# EAGLE library part KRAMER_SYSBUS (library ferry_Kramer_KC)
Kramer Kleincomputer System-Bus Buchse _MA für Module _FE für Busplatine
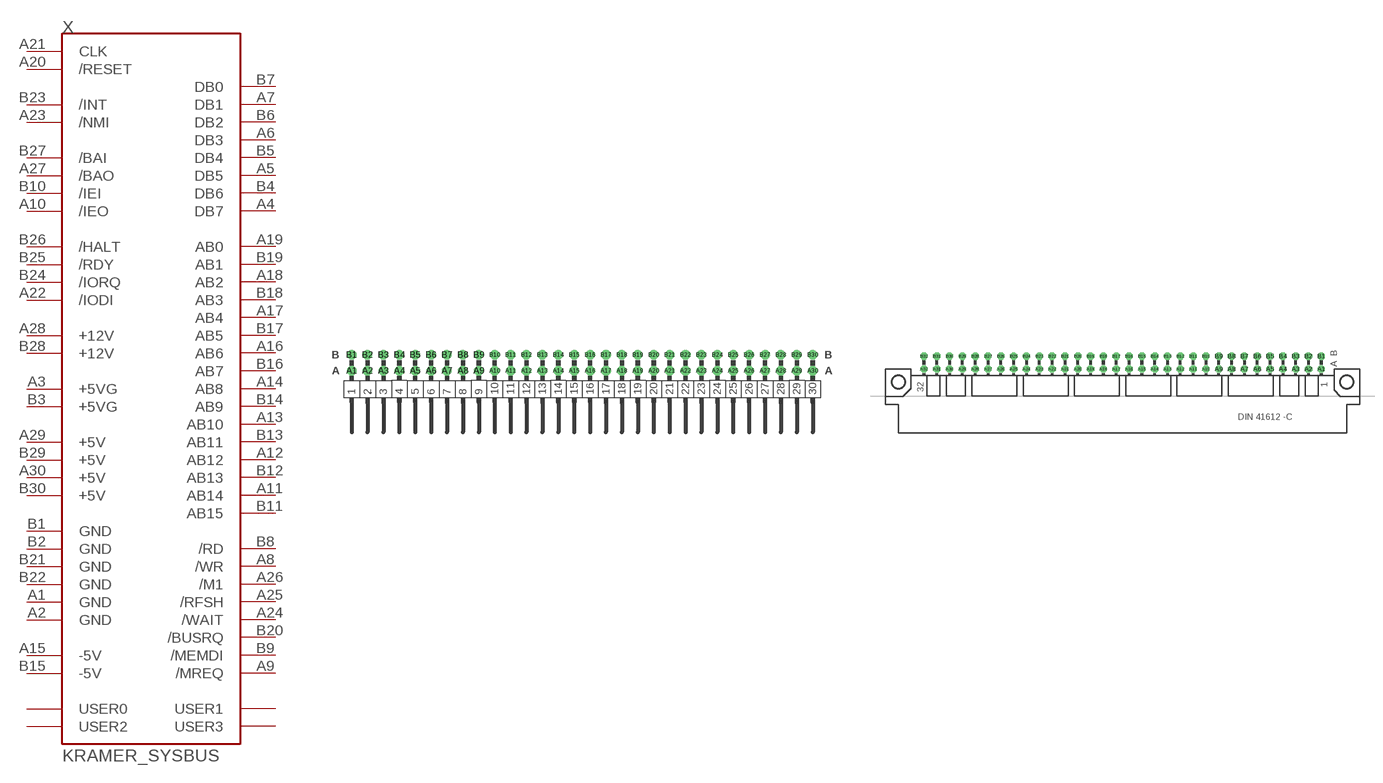
[diagram p0: symbol with the pads of MA30-2W; footprints MA30-2W, MAB64]

Designator prefix X

## KRAMER_SYSBUS_MA  [MA30-2W]
A1  GND  sup
A2  GND  sup
A3  +5VG  sup
A4  DB7
A5  DB5
A6  DB3
A7  DB1
A8  /WR
A9  /MREQ
A10  /IEO
A11  AB14  out
A12  AB12  out
A13  AB10  out
A14  AB8  out
A15  -5V  sup
A16  AB6  out
A17  AB4  out
A18  AB2  out
A19  AB0  out
A20  /RESET  in
A21  CLK
A22  /IODI  in
A23  /NMI  in
A24  /WAIT
A25  /RFSH
A26  /M1
A27  /BAO
A28  +12V  sup
A29  +5V  sup
A30  +5V  sup
B1  GND  sup
B2  GND  sup
B3  +5VG  sup
B4  DB6
B5  DB4
B6  DB2
B7  DB0
B8  /RD
B9  /MEMDI  in
B10  /IEI  in
B11  AB15  out
B12  AB13  out
B13  AB11  out
B14  AB9  out
B15  -5V  sup
B16  AB7  out
B17  AB5  out
B18  AB3  out
B19  AB1  out
B20  /BUSRQ  in
B21  GND  sup
B22  GND  sup
B23  /INT  in
B24  /IORQ  in
B25  /RDY
B26  /HALT
B27  /BAI  in
B28  +12V  sup
B29  +5V  sup
B30  +5V  sup

## KRAMER_SYSBUS_VG64B_MA  [MAB64]
A1  USER0
A2  +5V  sup
A3  +5V  sup
A4  +12V  sup
A5  /BAO
A6  /M1
A7  /RFSH
A8  /WAIT
A9  /NMI  in
A10  /IODI  in
A11  CLK
A12  /RESET  in
A13  AB0  out
A14  AB2  out
A15  AB4  out
A16  AB6  out
A17  -5V  sup
A18  AB8  out
A19  AB10  out
A20  AB12  out
A21  AB14  out
A22  /IEO
A23  /MREQ
A24  /WR
A25  DB1
A26  DB3
A27  DB5
A28  DB7
A29  +5VG  sup
A30  GND  sup
A31  GND  sup
A32  USER2
B1  USER1
B2  +5V  sup
B3  +5V  sup
B4  +12V  sup
B5  /BAI  in
B6  /HALT
B7  /RDY
B8  /IORQ  in
B9  /INT  in
B10  GND  sup
B11  GND  sup
B12  /BUSRQ  in
B13  AB1  out
B14  AB3  out
B15  AB5  out
B16  AB7  out
B17  -5V  sup
B18  AB9  out
B19  AB11  out
B20  AB13  out
B21  AB15  out
B22  /IEI  in
B23  /MEMDI  in
B24  /RD
B25  DB0
B26  DB2
B27  DB4
B28  DB6
B29  +5VG  sup
B30  GND  sup
B31  GND  sup
B32  USER3

## KRAMER_SYSBUS_VG64B_FE  [FAB64S]
Pads as for MAB64

## KRAMER_SYSBUS_FE  [FE30-2]
Pads as for MA30-2W

## KRAMER_SYSBUSNOHOLE  [FAB64S-NOHOLE]
Pads as for MAB64

## Footprint MA30-2W (pad centres in mm)
drill 1.016: A1 -36.83,-1.27; A2 -34.29,-1.27; A3 -31.75,-1.27; A4 -29.21,-1.27; A5 -26.67,-1.27; A6 -24.13,-1.27; A7 -21.59,-1.27; A8 -19.05,-1.27; A9 -16.51,-1.27; A10 -13.97,-1.27; A11 -11.43,-1.27; A12 -8.89,-1.27; A13 -6.35,-1.27; A14 -3.81,-1.27; A15 -1.27,-1.27; A16 1.27,-1.27; A17 3.81,-1.27; A18 6.35,-1.27; A19 8.89,-1.27; A20 11.43,-1.27; A21 13.97,-1.27; A22 16.51,-1.27; A23 19.05,-1.27; A24 21.59,-1.27; A25 24.13,-1.27; A26 26.67,-1.27; A27 29.21,-1.27; A28 31.75,-1.27; A29 34.29,-1.27; A30 36.83,-1.27; B1 -36.83,1.27; B2 -34.29,1.27; B3 -31.75,1.27; B4 -29.21,1.27; B5 -26.67,1.27; B6 -24.13,1.27; B7 -21.59,1.27; B8 -19.05,1.27; B9 -16.51,1.27; B10 -13.97,1.27; B11 -11.43,1.27; B12 -8.89,1.27; B13 -6.35,1.27; B14 -3.81,1.27; B15 -1.27,1.27; B16 1.27,1.27; B17 3.81,1.27; B18 6.35,1.27; B19 8.89,1.27; B20 11.43,1.27; B21 13.97,1.27; B22 16.51,1.27; B23 19.05,1.27; B24 21.59,1.27; B25 24.13,1.27; B26 26.67,1.27; B27 29.21,1.27; B28 31.75,1.27; B29 34.29,1.27; B30 36.83,1.27

## Footprint MAB64 (pad centres in mm)
CONNECTOR male, 64 pins, type b, rows AB, grid 2.54 mm
drill 0.914 octagon: A1 39.37,-1.27; A2 36.83,-1.27; A3 34.29,-1.27; A4 31.75,-1.27; A5 29.21,-1.27; A6 26.67,-1.27; A7 24.13,-1.27; A8 21.59,-1.27; A9 19.05,-1.27; A10 16.51,-1.27; A11 13.97,-1.27; A12 11.43,-1.27; A13 8.89,-1.27; A14 6.35,-1.27; A15 3.81,-1.27; A16 1.27,-1.27; A17 -1.27,-1.27; A18 -3.81,-1.27; A19 -6.35,-1.27; A20 -8.89,-1.27; A21 -11.43,-1.27; A22 -13.97,-1.27; A23 -16.51,-1.27; A24 -19.05,-1.27; A25 -21.59,-1.27; A26 -24.13,-1.27; A27 -26.67,-1.27; A28 -29.21,-1.27; A29 -31.75,-1.27; A30 -34.29,-1.27; A31 -36.83,-1.27; A32 -39.37,-1.27; B1 39.37,1.27; B2 36.83,1.27; B3 34.29,1.27; B4 31.75,1.27; B5 29.21,1.27; B6 26.67,1.27; B7 24.13,1.27; B8 21.59,1.27; B9 19.05,1.27; B10 16.51,1.27; B11 13.97,1.27; B12 11.43,1.27; B13 8.89,1.27; B14 6.35,1.27; B15 3.81,1.27; B16 1.27,1.27; B17 -1.27,1.27; B18 -3.81,1.27; B19 -6.35,1.27; B20 -8.89,1.27; B21 -11.43,1.27; B22 -13.97,1.27; B23 -16.51,1.27; B24 -19.05,1.27; B25 -21.59,1.27; B26 -24.13,1.27; B27 -26.67,1.27; B28 -29.21,1.27; B29 -31.75,1.27; B30 -34.29,1.27; B31 -36.83,1.27; B32 -39.37,1.27
hole 2.794 at 44.45,-3.81
hole 2.794 at -44.45,-3.81

## Footprint FAB64S (pad centres in mm)
CONNECTOR female, 64 pins, type B, rows AB, grid 2.54 mm
drill 0.914 octagon: A1 39.37,1.27; A2 36.83,1.27; A3 34.29,1.27; A4 31.75,1.27; A5 29.21,1.27; A6 26.67,1.27; A7 24.13,1.27; A8 21.59,1.27; A9 19.05,1.27; A10 16.51,1.27; A11 13.97,1.27; A12 11.43,1.27; A13 8.89,1.27; A14 6.35,1.27; A15 3.81,1.27; A16 1.27,1.27; A17 -1.27,1.27; A18 -3.81,1.27; A19 -6.35,1.27; A20 -8.89,1.27; A21 -11.43,1.27; A22 -13.97,1.27; A23 -16.51,1.27; A24 -19.05,1.27; A25 -21.59,1.27; A26 -24.13,1.27; A27 -26.67,1.27; A28 -29.21,1.27; A29 -31.75,1.27; A30 -34.29,1.27; A31 -36.83,1.27; A32 -39.37,1.27; B1 39.37,-1.27; B2 36.83,-1.27; B3 34.29,-1.27; B4 31.75,-1.27; B5 29.21,-1.27; B6 26.67,-1.27; B7 24.13,-1.27; B8 21.59,-1.27; B9 19.05,-1.27; B10 16.51,-1.27; B11 13.97,-1.27; B12 11.43,-1.27; B13 8.89,-1.27; B14 6.35,-1.27; B15 3.81,-1.27; B16 1.27,-1.27; B17 -1.27,-1.27; B18 -3.81,-1.27; B19 -6.35,-1.27; B20 -8.89,-1.27; B21 -11.43,-1.27; B22 -13.97,-1.27; B23 -16.51,-1.27; B24 -19.05,-1.27; B25 -21.59,-1.27; B26 -24.13,-1.27; B27 -26.67,-1.27; B28 -29.21,-1.27; B29 -31.75,-1.27; B30 -34.29,-1.27; B31 -36.83,-1.27; B32 -39.37,-1.27
hole 2.794 at -45.009,-0.965
hole 2.794 at 45.009,-0.965

## Footprint FE30-2 (pad centres in mm)
drill 0.5 pad 1.5: A1 -36.83,1.27; A2 -34.29,1.27; A3 -31.75,1.27; A4 -29.21,1.27; A5 -26.67,1.27; A6 -24.13,1.27; A7 -21.59,1.27; A8 -19.05,1.27; A9 -16.51,1.27; A10 -13.97,1.27; A11 -11.43,1.27; A12 -8.89,1.27; A13 -6.35,1.27; A14 -3.81,1.27; A15 -1.27,1.27; A16 1.27,1.27; A17 3.81,1.27; A18 6.35,1.27; A19 8.89,1.27; A20 11.43,1.27; A21 13.97,1.27; A22 16.51,1.27; A23 19.05,1.27; A24 21.59,1.27; A25 24.13,1.27; A26 26.67,1.27; A27 29.21,1.27; A28 31.75,1.27; A29 34.29,1.27; A30 36.83,1.27; B1 -36.83,-1.27; B2 -34.29,-1.27; B3 -31.75,-1.27; B4 -29.21,-1.27; B5 -26.67,-1.27; B6 -24.13,-1.27; B7 -21.59,-1.27; B8 -19.05,-1.27; B9 -16.51,-1.27; B10 -13.97,-1.27; B11 -11.43,-1.27; B12 -8.89,-1.27; B13 -6.35,-1.27; B14 -3.81,-1.27; B15 -1.27,-1.27; B16 1.27,-1.27; B17 3.81,-1.27; B18 6.35,-1.27; B19 8.89,-1.27; B20 11.43,-1.27; B21 13.97,-1.27; B22 16.51,-1.27; B23 19.05,-1.27; B24 21.59,-1.27; B25 24.13,-1.27; B26 26.67,-1.27; B27 29.21,-1.27; B28 31.75,-1.27; B29 34.29,-1.27; B30 36.83,-1.27

## Footprint FAB64S-NOHOLE (pad centres in mm)
drill 0.914 octagon: A1 39.37,1.27; A2 36.83,1.27; A3 34.29,1.27; A4 31.75,1.27; A5 29.21,1.27; A6 26.67,1.27; A7 24.13,1.27; A8 21.59,1.27; A9 19.05,1.27; A10 16.51,1.27; A11 13.97,1.27; A12 11.43,1.27; A13 8.89,1.27; A14 6.35,1.27; A15 3.81,1.27; A16 1.27,1.27; A17 -1.27,1.27; A18 -3.81,1.27; A19 -6.35,1.27; A20 -8.89,1.27; A21 -11.43,1.27; A22 -13.97,1.27; A23 -16.51,1.27; A24 -19.05,1.27; A25 -21.59,1.27; A26 -24.13,1.27; A27 -26.67,1.27; A28 -29.21,1.27; A29 -31.75,1.27; A30 -34.29,1.27; A31 -36.83,1.27; A32 -39.37,1.27; B1 39.37,-1.27; B2 36.83,-1.27; B3 34.29,-1.27; B4 31.75,-1.27; B5 29.21,-1.27; B6 26.67,-1.27; B7 24.13,-1.27; B8 21.59,-1.27; B9 19.05,-1.27; B10 16.51,-1.27; B11 13.97,-1.27; B12 11.43,-1.27; B13 8.89,-1.27; B14 6.35,-1.27; B15 3.81,-1.27; B16 1.27,-1.27; B17 -1.27,-1.27; B18 -3.81,-1.27; B19 -6.35,-1.27; B20 -8.89,-1.27; B21 -11.43,-1.27; B22 -13.97,-1.27; B23 -16.51,-1.27; B24 -19.05,-1.27; B25 -21.59,-1.27; B26 -24.13,-1.27; B27 -26.67,-1.27; B28 -29.21,-1.27; B29 -31.75,-1.27; B30 -34.29,-1.27; B31 -36.83,-1.27; B32 -39.37,-1.27